# Altium footprint library Flow_Pump.PcbLib: 78 footprints (part 4 of 5)
Each footprint in its own frame and in the unit in brackets; x right, y up, seen from the top. Pads: shape width x height; smd on the part's side, far side on the other; paste and mask are expansions set on the pad; w line width, h text height; cw(c..) or ccw(c..) is an arc to the next point about the centre after c.
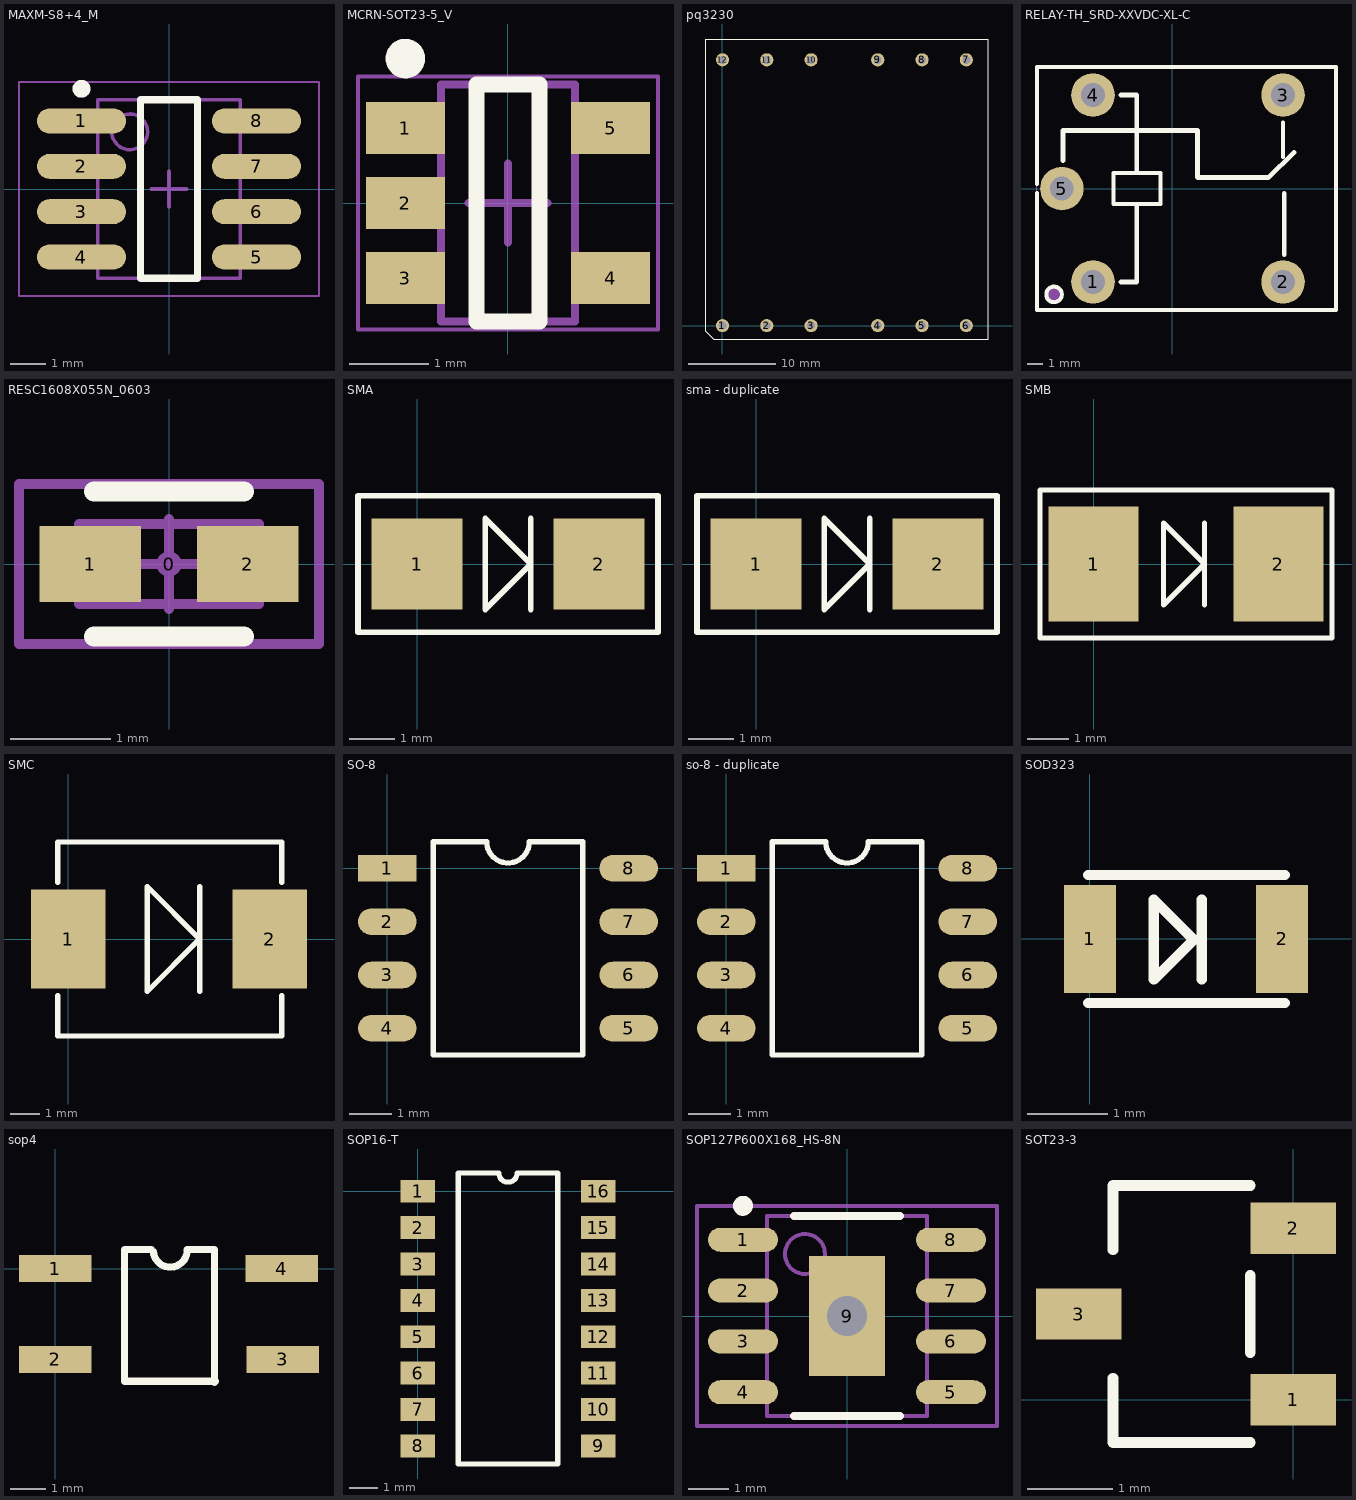
[diagram p3: the footprints below, top view; thin cyan lines are the x and y axes]

## MAXM-S8+4_M [mm] "SOIC, 8-Leads, Body 4.9x3.9mm, Pitch 1.27mm, IPC Low Density"
height 1.75
pads (8):
  oval 2.5x0.7 smd: 1(-2.45,1.905) 2(-2.45,0.635) 3(-2.45,-0.635) 4(-2.45,-1.905) 5(2.45,-1.905) 6(2.45,-0.635) 7(2.45,0.635) 8(2.45,1.905)
Top Overlay:
  circle w0.25: c-2.45,2.805 r0.125
  lines w0.2: -0.8,-2.5 -0.8,2.5 0.8,2.5 0.8,-2.5 -0.8,-2.5
Mechanical 13:
  circle w0.1: c-1.1,1.6 r0.5
  lines w0.1: -2,-2.5 -2,2.5 2,2.5 2,-2.5 -2,-2.5
Mechanical 15:
  lines w0.05: -4.2,-3 -4.2,3 4.2,3 4.2,-3 -4.2,-3
  lines w0.1: -0.5,0 0.5,0 ; 0,-0.5 0,0.5
3D body: height 1.75, standoff 0.1, extent -2,-2.5 2,2.5

## MCRN-SOT23-5_V [mm] "SOT-23, 5-Leads, Body 3x1.7mm, Pitch 0.95mm"
height 1.45
pads (5):
  rect 1x0.66 smd: 1(-1.3,0.95) 2(-1.3,0) 3(-1.3,-0.95) 4(1.3,-0.95) 5(1.3,0.95)
Top Overlay:
  circle w0.25: c-1.3,1.83 r0.125
  lines w0.2: -0.4,-1.5 0.4,-1.5 0.4,1.5 -0.4,1.5 -0.4,-1.5
Mechanical 13:
  lines w0.1: -0.85,-1.5 -0.85,1.5 0.85,1.5 0.85,-1.5 -0.85,-1.5
Mechanical 15:
  lines w0.05: -1.9,-1.6 -1.9,1.6 1.9,1.6 1.9,-1.6 -1.9,-1.6
  lines w0.1: -0.5,0 0.5,0 ; 0,-0.5 0,0.5
3D body "SOT95P280X145-5L.step": height 1.45, standoff 0, extent -1.5,-1.5 1.5,1.5

## pq3230 [mm]
height 0.75
pads (12):
  round 1.5 hole 0.9: 1(0,0) 2(5.05,0) 3(10.1,0) 4(17.7,0) 5(22.75,0) 6(27.8,0) 7(27.8,30.3) 8(22.75,30.3) 9(17.7,30.3) 10(10.1,30.3) 11(5.05,30.3) 12(0,30.3)
Top Overlay:
  lines w0.127: -1.905,-0.635 -1.016,-1.524 30.295,-1.524 30.295,32.676 -1.905,32.676 -1.905,-0.635

## RELAY-TH_SRD-XXVDC-XL-C [mil]
height 29.53
pads (5):
  round 110 hole 60: 1(-200.79,-236.22) 2(279.54,-236.2) 3(279.53,236.2) 4(-200.79,236.22) 5(-279.53,0)
Top Overlay:
  circle w10: c-299.21,-267.72 r19.69
  lines w10: -342.49,-11.6 -342.49,-307.09 413.43,-307.09 ; -342.49,11.6 -342.49,307.09 413.42,307.09 413.43,-307.09 ; 279.5,79.5 279.5,167.2 ; -148.62,-39.37 -30.51,-39.37 -30.51,39.37 -148.62,39.37 -148.62,-39.37
  lines w11.81: -276.84,70.87 -276.84,146.74 63.16,146.74 63.16,28.63 64.11,27.68 222.22,27.68 242.22,27.68 ; -130.31,-236.22 -90.24,-236.22 -90.24,-41.39 ; -130.31,236.22 -90.24,236.22 -90.24,41.37 ; 242.13,27.6 307.11,90.9 ; 282.22,-167.6 282.22,-12.3
Mechanical 6:
  circle w19.68: c-299.21,-267.72 r9.84
Mechanical 15:
  region: -340.16,-307.07 -340.16,-306.09 -341.54,-304.71 -343.5,-304.71 -344.88,-306.09 -344.88,-307.07 -344.88,-308.05 -343.5,-309.43 -341.54,-309.43 -340.16,-308.05 -340.16,-307.07
  region: -188.97,236.22 -189.02,238.54 -190.86,242.8 -194.17,246.05 -198.47,247.8 -203.11,247.8 -207.4,246.05 -210.72,242.8 -212.56,238.54 -212.6,236.22 -212.56,233.9 -210.72,229.64 -207.4,226.39 -203.11,224.63 -198.47,224.63 -194.17,226.39 -190.86,229.64 -189.02,233.9 -188.97,236.22
  region: -188.97,-236.22 -189.02,-233.9 -190.86,-229.64 -194.17,-226.39 -198.47,-224.64 -203.11,-224.64 -207.4,-226.39 -210.72,-229.64 -212.56,-233.9 -212.6,-236.22 -212.56,-238.54 -210.72,-242.8 -207.4,-246.05 -203.11,-247.81 -198.47,-247.81 -194.17,-246.05 -190.86,-242.8 -189.02,-238.54 -188.97,-236.22
  region: -271.66,21.65 -271.66,-21.65 -287.4,-21.65 -287.4,21.65
  region: 299.21,226.36 259.85,226.36 259.85,246.04 299.21,246.04
  region: 299.21,-246.04 259.85,-246.04 259.85,-226.36 299.21,-226.36
  lines w2: -342.52,-307.07 -342.52,307.09 413.39,307.09 413.39,-307.07 -342.52,-307.07

## RESC1608X055N_0603 [mil] "Chip Resistor, 0603"
height 21.65
pads (3):
  round 10 on Mech3: 0(0,0)
  rect 40x30 smd: 1(-30.98,0) 2(30.98,0)
Top Overlay:
  lines w7.87: -29.53,-28.54 29.53,-28.54 ; -29.53,28.54 29.53,28.54
Mechanical 10:
  lines w3.94: -35.43,-15.75 -35.43,15.75 35.43,15.75 35.43,-15.75 -35.43,-15.75
  text ".Designator" at -25.59,-7.87 h15.75
Mechanical 12:
  lines w3.94: -31.49,-15.74 -31.49,15.75 31.5,15.75 31.5,-15.74 -31.49,-15.74
Mechanical 14:
  lines w3.94: -17.72,0 17.72,0 ; 0,-17.72 0,17.72 ; -59.06,-31.5 -59.06,31.5 59.06,31.5 59.06,-31.5 -59.06,-31.5
3D body "RESC1608X55N EIA 0603.step": height 21.65, standoff 0, extent -31.5,-15.75 31.5,15.75

## SMA [mm]
height 0.75
pads (2):
  rect 2x2 smd: 1(0,0) 2(4,0)
Top Overlay:
  lines w0.127: 2.5,-1 2.5,1 ; -1.3,-1.5 -1.3,1.5 5.3,1.5 5.3,-1.5 -1.3,-1.5 ; 1.5,-1 1.5,1 2.5,0 1.5,-1

## sma - duplicate [mm]
pads (2):
  rect 2x2 smd: 1(0,0) 2(4,0)
Top Overlay:
  lines w0.127: 2.5,-1 2.5,1 ; -1.3,-1.5 5.3,-1.5 5.3,1.5 -1.3,1.5 -1.3,-1.5 ; 1.5,-1 2.5,0 1.5,1 1.5,-1

## SMB [mm]
height 0.75
pads (2):
  rect 2.2x2.8 smd: 1(0,0) 2(4.5,0)
Top Overlay:
  lines w0.127: 2.7,-1 2.7,1 ; -1.3,-1.8 -1.3,1.8 5.8,1.8 5.8,-1.8 -1.3,-1.8 ; 1.7,-1 1.7,1 2.7,0 1.7,-1

## SMC [mm]
height 0.75
pads (2):
  rect 2.5x3.3 smd: 1(0,0) 2(6.75,0)
Top Overlay:
  lines w0.178: -0.35,-1.9 -0.35,-3.25 7.15,-3.25 7.15,-1.9 ; -0.35,1.9 -0.35,3.25 7.15,3.25 7.15,1.9 ; 4.4,-1.75 4.4,1.75 ; 2.65,-1.75 4.4,0 2.65,1.75 2.65,-1.75

## SO-8 [mil]
height 29.53
pads (8):
  rect 55x25 smd: 1(0,0)
  oval 55x25 smd: 2(0,-50) 3(0,-100) 4(0,-150) 5(226.38,-150) 6(226.38,-100) 7(226.38,-50) 8(226.38,0)
Top Overlay:
  lines w5: 43.19,-175 183.19,-175 183.19,25 133.19,25 cw(c113.19,25) 93.19,25 43.19,25 43.19,-175

## so-8 - duplicate [mil]
pads (8):
  rect 55x25 smd: 1(0,0)
  oval 55x25 smd: 2(0,-50) 3(0,-100) 4(0,-150) 5(226.38,-150) 6(226.38,-100) 7(226.38,-50) 8(226.38,0)
Top Overlay:
  lines w5: 43.19,-175 183.19,-175 183.19,25 133.19,25 cw(c113.19,25) 93.19,25 43.19,25 43.19,-175

## SOD323 [mm]
height 0.75
pads (2):
  rect 0.65x1.35 smd: 1(0,0) 2(2.4,0)
Top Overlay:
  lines w0.127: -0.025,-0.8 2.438,-0.8 ; -0.025,0.8 2.438,0.8 ; 1.397,-0.508 1.397,0.492 ; 0.797,-0.508 0.797,0.492 1.297,-0.008 0.797,-0.508

## sop4 [mil]
height 318.9
pads (4):
  rect 80x30 smd: 1(0,0) 2(0,-100) 3(250,-100) 4(249,0)
Top Overlay:
  lines w7.87: 105.59,21 76,21 76,-124 176,-124 ; 107.7,18.89 ccw(c126.34,20.22) 145,21 175,21 175,-125

## SOP16-T [mm]
height 0.75
pads (16):
  rect 1.2x0.8 smd: 1(0,0) 2(0,-1.27) 3(0,-2.54) 4(0,-3.81) 5(0,-5.08) 6(0,-6.35) 7(0,-7.62) 8(0,-8.89) 9(6.3,-8.89) 10(6.3,-7.62) 11(6.3,-6.35) 12(6.3,-5.08) 13(6.3,-3.81) 14(6.3,-2.54) 15(6.3,-1.27) 16(6.3,0)
Top Overlay:
  lines w0.18: 1.415,-9.525 4.885,-9.525 4.885,0.635 3.467,0.635 cw(c3.15,0.635) 2.832,0.635 1.415,0.635 1.415,-9.525

## SOP127P600X168_HS-8N [mm] "SOP, 8-Leads, Body 5.0x4.0mm (max), Pitch 1.27mm, IPC Medium Density"
height 1.68
pads (9):
  oval 1.75x0.6 smd: 1(-2.6,1.905) 2(-2.6,0.635) 3(-2.6,-0.635) 4(-2.6,-1.905) 5(2.6,-1.905) 6(2.6,-0.635) 7(2.6,0.635) 8(2.6,1.905)
  rect 1.9x3 smd: 9(0,0)
via 0,0 diameter 1.5 hole 1
Top Overlay:
  circle w0.25: c-2.6,2.755 r0.125
  lines w0.2: -1.325,-2.5 1.325,-2.5 ; -1.325,2.5 1.325,2.5
Mechanical 13:
  circle w0.1: c-1.05,1.55 r0.5
  lines w0.1: -2,-2.5 2,-2.5 2,2.5 -2,2.5 -2,-2.5
Mechanical 15:
  lines w0.1: -0.5,0 0.5,0 ; 0,-0.5 0,0.5 ; -3.75,-2.75 3.75,-2.75 3.75,2.75 -3.75,2.75 -3.75,-2.75
3D body: height 1.68, standoff 0.25, extent -2,-2.5 2,2.5

## SOT23-3 [mm]
height 0.75
pads (3):
  rect 1x0.6 smd: 1(0,0) 2(0,2) 3(-2.5,1)
Top Overlay:
  lines w0.127: -2.1,0.25 -2.1,-0.5 -0.5,-0.5 ; -2.1,1.75 -2.1,2.5 -0.5,2.5 ; -0.5,0.55 -0.5,1.45